# EAGLE library part 14POS-*MM-? (library con-wurth-board-header)
Wurth Elektronik WR-BHD Male Box Headers
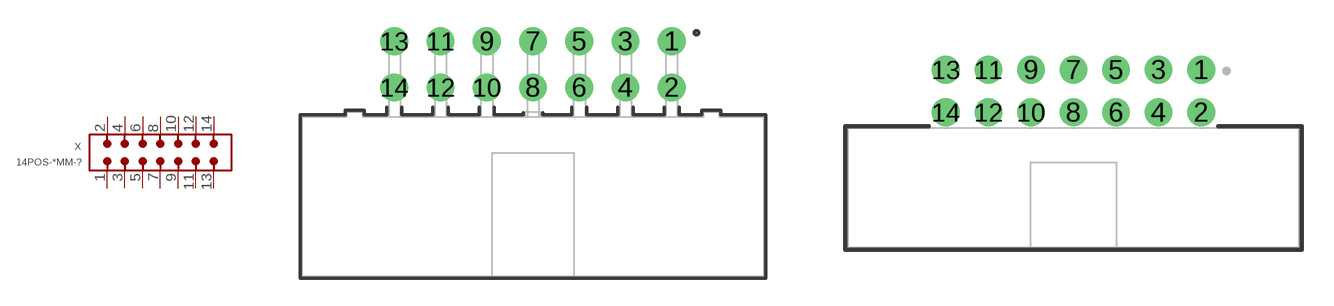
[diagram p4: symbol with the pads of 612014235221; footprints 612014235221, 62501421721]

Designator prefix X

## 14POS-2.54MM-612014235221 (CONTACT-RESISTANCE: 20mOhm; DATASHEET-URL: https://www.we-online.com/redexpert/spec/612014235221?ae; GENDER: Male; IR: 3A; LENGTH: 25.38mm; MOUNT: THT; PACKAGING: Tray; PART-NUMBER: 612014235221; PINS: 14; PITCH: 2.54 mm; TYPE: Angled; VALUE: 612014235221; WORKING-VOLTAGE: 250V(AC))  [612014235221]
1  1  pas
2  2  pas
3  3  pas
4  4  pas
5  5  pas
6  6  pas
7  7  pas
8  8  pas
9  9  pas
10  10  pas
11  11  pas
12  12  pas
13  13  pas
14  14  pas

## 14POS-2.00MM-62501421721 (CONTACT-RESISTANCE: 20mOhm; DATASHEET-URL: https://www.we-online.com/redexpert/spec/62501421721?ae; GENDER: Male; IR: 2A; LENGTH: 21.25mm; MOUNT: THT; PACKAGING: Tray; PART-NUMBER: 62501421721; PINS: 14; PITCH: 2.00 mm; TYPE: Angled; VALUE: 62501421721; WORKING-VOLTAGE: 250V(AC))  [62501421721]
Pads as for 612014235221

## 14POS-2.54MM-61201422021 (CONTACT-RESISTANCE: 20mOhm; DATASHEET-URL: https://www.we-online.com/redexpert/spec/61201422021?ae; GENDER: Male; IR: 3A; LENGTH: 37.28mm; MOUNT: THT; PACKAGING: Tray; PART-NUMBER: 61201422021; PINS: 14; PITCH: 2.54 mm; TYPE: Straight; VALUE: 61201422021; WORKING-VOLTAGE: 250V(AC))  [61201422021]
Pads as for 612014235221

## 14POS-2.54MM-61201421721 (CONTACT-RESISTANCE: 20mOhm; DATASHEET-URL: https://www.we-online.com/redexpert/spec/61201421721?ae; GENDER: Male; IR: 3A; LENGTH: 27.98mm; MOUNT: THT; PACKAGING: Tray; PART-NUMBER: 61201421721; PINS: 14; PITCH: 2.54 mm; TYPE: Angled; VALUE: 61201421721; WORKING-VOLTAGE: 250V(AC))  [61201421721]
Pads as for 612014235221

## 14POS-2.54MM-61201422921 (CONTACT-RESISTANCE: 20mOhm; DATASHEET-URL: https://www.we-online.com/redexpert/spec/61201422921?ae; GENDER: Male; IR: 3A; LENGTH: 37.28mm; MOUNT: THT; PACKAGING: Tray; PART-NUMBER: 61201422921; PINS: 14; PITCH: 2.54 mm; TYPE: Angled; VALUE: 61201422921; WORKING-VOLTAGE: 250V(AC))  [61201422921]
Pads as for 612014235221

## 14POS-1.27MM-62701420621 (CONTACT-RESISTANCE: 20mOhm; DATASHEET-URL: https://www.we-online.com/redexpert/spec/62701420621?ae; GENDER: Male; IR: 1A; LENGTH: 15.24mm; MOUNT: SMT; PART-NUMBER: 62701420621; PINS: 14; PITCH: 1.27mm; TYPE: Straight; VALUE: 62701420621; WORKING-VOLTAGE: 50V(AC))  [62701420621]
Pads as for 612014235221

## 14POS-2.54MM-61201422121 (CONTACT-RESISTANCE: 20mOhm; DATASHEET-URL: https://www.we-online.com/redexpert/spec/61201422121?ae; GENDER: Male; IR: 3A; LENGTH: 37.28mm; MOUNT: THT; PACKAGING: Tray; PART-NUMBER: 61201422121; PINS: 14; PITCH: 2.54 mm; TYPE: Angled; VALUE: 61201422121; WORKING-VOLTAGE: 250V(AC))  [61201422121]
Pads as for 612014235221

## 14POS-2.54MM-61201422821 (CONTACT-RESISTANCE: 20mOhm; DATASHEET-URL: https://www.we-online.com/redexpert/spec/61201422821?ae; GENDER: Male; IR: 3A; LENGTH: 37.28mm; MOUNT: THT; PACKAGING: Tray; PART-NUMBER: 61201422821; PINS: 14; PITCH: 2.54 mm; TYPE: Straight; VALUE: 61201422821; WORKING-VOLTAGE: 250V(AC))  [61201422821]
Pads as for 612014235221

## 14POS-1.27MM-62701421721 (CONTACT-RESISTANCE: 20mOhm; DATASHEET-URL: https://www.we-online.com/redexpert/spec/62701421721?ae; GENDER: Male; IR: 1A; LENGTH: 15.24mm; MOUNT: THT; PART-NUMBER: 62701421721; PINS: 14; PITCH: 1.27mm; TYPE: Angled; VALUE: 62701421721; WORKING-VOLTAGE: 50V(AC))  [62701421721]
Pads as for 612014235221

## 14POS-2.00MM-62501421621 (CONTACT-RESISTANCE: 20mOhm; DATASHEET-URL: https://www.we-online.com/redexpert/spec/62501421621?ae; GENDER: Male; IR: 2A; LENGTH: 21.2mm; MOUNT: THT; PACKAGING: Tray; PART-NUMBER: 62501421621; PINS: 14; PITCH: 2.00 mm; TYPE: Straight; VALUE: 62501421621; WORKING-VOLTAGE: 250V(AC))  [62501421621]
Pads as for 612014235221

## 14POS-1.27MM-62701421621 (CONTACT-RESISTANCE: 20mOhm; DATASHEET-URL: https://www.we-online.com/redexpert/spec/62701421621?ae; GENDER: Male; IR: 1A; LENGTH: 15.24mm; MOUNT: THT; PART-NUMBER: 62701421621; PINS: 14; PITCH: 1.27mm; TYPE: Straight; VALUE: 62701421621; WORKING-VOLTAGE: 50V(AC))  [62701421621]
Pads as for 612014235221

## 14POS-2.00MM-62501422323 (CONTACT-RESISTANCE: 20mOhm; DATASHEET-URL: https://www.we-online.com/redexpert/spec/62501422323?ae; GENDER: Transition; IR: 1A; LENGTH: 18.1mm; MOUNT: THT; PACKAGING: Tray; PART-NUMBER: 62501422323; PINS: 14; PITCH: 2.00 mm; TYPE: Straight; VALUE: 62501422323; WORKING-VOLTAGE: 250V(AC))  [62501422323]
Pads as for 612014235221

## 14POS-2.54MM-61201420621 (CONTACT-RESISTANCE: 20mOhm; DATASHEET-URL: https://www.we-online.com/redexpert/spec/61201420621?ae; GENDER: Male; IR: 3A; LENGTH: 25.58mm; MOUNT: SMT; PACKAGING: Tube; PART-NUMBER: 61201420621; PINS: 14; PITCH: 2.54 mm; TYPE: Straight; VALUE: 61201420621; WORKING-VOLTAGE: 250V(AC))  [61201420621]
Pads as for 612014235221

## 14POS-2.00MM-62501422021 (CONTACT-RESISTANCE: 20mOhm; DATASHEET-URL: https://www.we-online.com/redexpert/spec/62501422021?ae; GENDER: Male; IR: 2A; LENGTH: 29.7mm; MOUNT: THT; PACKAGING: Tray; PART-NUMBER: 62501422021; PINS: 14; PITCH: 2.00 mm; TYPE: Straight; VALUE: 62501422021; WORKING-VOLTAGE: 250V(AC))  [62501422021]
Pads as for 612014235221

## 14POS-2.00MM-62501422121 (CONTACT-RESISTANCE: 20mOhm; DATASHEET-URL: https://www.we-online.com/redexpert/spec/62501422121?ae; GENDER: Male; IR: 2A; LENGTH: 29.7mm; MOUNT: THT; PACKAGING: Tray; PART-NUMBER: 62501422121; PINS: 14; PITCH: 2.00 mm; TYPE: Angled; VALUE: 62501422121; WORKING-VOLTAGE: 250V(AC))  [62501422121]
Pads as for 612014235221

## 14POS-2.54MM-61201422323 (CONTACT-RESISTANCE: 20mOhm; DATASHEET-URL: https://www.we-online.com/redexpert/spec/61201422323?ae; GENDER: Transition; IR: 1A; LENGTH: 23.23mm; MOUNT: THT; PACKAGING: Tray; PART-NUMBER: 61201422323; PINS: 14; PITCH: 2.54 mm; TYPE: Straight; VALUE: 61201422323; WORKING-VOLTAGE: 250V(AC))  [61201422323]
Pads as for 612014235221

## 14POS-2.54MM-612014235121 (CONTACT-RESISTANCE: 20mOhm; DATASHEET-URL: https://www.we-online.com/redexpert/spec/612014235121?ae; GENDER: Male; IR: 3A; LENGTH: 25.38mm; MOUNT: THT; PACKAGING: Tray; PART-NUMBER: 612014235121; PINS: 14; PITCH: 2.54 mm; TYPE: Straight; VALUE: 612014235121; WORKING-VOLTAGE: 250V(AC))  [612014235121]
Pads as for 612014235221

## 14POS-2.54MM-61201421621 (CONTACT-RESISTANCE: 20mOhm; DATASHEET-URL: https://www.we-online.com/redexpert/spec/61201421621?ae; GENDER: Male; IR: 3A; LENGTH: 25.44mm; MOUNT: THT; PACKAGING: Tray; PART-NUMBER: 61201421621; PINS: 14; PITCH: 2.54 mm; TYPE: Straight; VALUE: 61201421621; WORKING-VOLTAGE: 250V(AC))  [61201421621]
Pads as for 612014235221

## 14POS-2.00MM-62531420621 (CONTACT-RESISTANCE: 20mOhm; DATASHEET-URL: https://www.we-online.com/redexpert/spec/62531420621?ae; GENDER: Male; IR: 2A; LENGTH: 21.25mm; MOUNT: SMT; PACKAGING: Tape and Reel with Cap; PART-NUMBER: 62531420621; PINS: 14; PITCH: 2.00; TYPE: Straight; VALUE: 62531420621; WORKING-VOLTAGE: 250V(AC))  [62531420621]
Pads as for 612014235221

## 14POS-2.54MM-61231420621 (CONTACT-RESISTANCE: 20mOhm; DATASHEET-URL: https://www.we-online.com/redexpert/spec/61231420621?ae; GENDER: Male; IR: 3A; LENGTH: 25.4mm; MOUNT: SMT; PACKAGING: Tape and Reel with Cap; PART-NUMBER: 61231420621; PINS: 14; PITCH: 2.54 mm; TYPE: Straight; VALUE: 61231420621; WORKING-VOLTAGE: 250V(AC))  [61231420621]
Pads as for 612014235221

## 14POS-1.27MM-62731420621 (CONTACT-RESISTANCE: 20mOhm; DATASHEET-URL: https://www.we-online.com/redexpert/spec/62731420621?ae; GENDER: Male; IR: 1A; LENGTH: 15.24mm; MOUNT: SMT; PART-NUMBER: 62731420621; PINS: 14; PITCH: 1.27 mm; TYPE: Straight; VALUE: 62731420621; WORKING-VOLTAGE: 50V(AC))  [62731420621]
Pads as for 612014235221

## Footprint 612014235221 (pad centres in mm)
WR-BHD 2.54 mm Male Angled Box Header High Temperature,14 Pins
drill 1.02: 1 7.62,8.54; 2 7.62,6; 3 5.08,8.54; 4 5.08,6; 5 2.54,8.54; 6 2.54,6; 7 0,8.54; 8 0,6; 9 -2.54,8.54; 10 -2.54,6; 11 -5.08,8.54; 12 -5.08,6; 13 -7.62,8.54; 14 -7.62,6

## Footprint 62501421721 (pad centres in mm)
WR-BHD 2.00 mm Male Angled Box Header,14 pins
drill 0.8: 1 6,5.55; 2 6,3.55; 3 4,5.55; 4 4,3.55; 5 2,5.55; 6 2,3.55; 7 0,5.55; 8 0,3.55; 9 -2,5.55; 10 -2,3.55; 11 -4,5.55; 12 -4,3.55; 13 -6,5.55; 14 -6,3.55

## Footprint 61201422021 (pad centres in mm)
WR-BHD 2.54 mm Male Box Header with short lever,14 Pins
drill 1.02: 1 -7.62,-1.27; 2 -7.62,1.27; 3 -5.08,-1.27; 4 -5.08,1.27; 5 -2.54,-1.27; 6 -2.54,1.27; 7 0,-1.27; 8 0,1.27; 9 2.54,-1.27; 10 2.54,1.27; 11 5.08,-1.27; 12 5.08,1.27; 13 7.62,-1.27; 14 7.62,1.27

## Footprint 61201421721 (pad centres in mm)
WR-BHD 2.54 mm Male Angled Box Header,14 Pins
drill 1.1: 1 7.62,8.805; 2 7.62,6.265; 3 5.08,8.805; 4 5.08,6.265; 5 2.54,8.805; 6 2.54,6.265; 7 0,8.805; 8 0,6.265; 9 -2.54,8.805; 10 -2.54,6.265; 11 -5.08,8.805; 12 -5.08,6.265; 13 -7.62,8.805; 14 -7.62,6.265

## Footprint 61201422921 (pad centres in mm)
WR-BHD 2.54 mm Male Angled Box Header with long lever, 14 Pins
drill 1.02: 1 7.62,7.36; 2 7.62,4.82; 3 5.08,7.36; 4 5.08,4.82; 5 2.54,7.36; 6 2.54,4.82; 7 0,7.36; 8 0,4.82; 9 -2.54,7.36; 10 -2.54,4.82; 11 -5.08,7.36; 12 -5.08,4.82; 13 -7.62,7.36; 14 -7.62,4.82

## Footprint 62701420621 (pad centres in mm)
WR-BHD 1.27 mm Male SMT Box Header Pitch: 1.27mm, 14pins, SMT
smd 0.65 x 2.76: 1 -3.81,-2.02; 2 -3.81,2.02; 3 -2.54,-2.02; 4 -2.54,2.02; 5 -1.27,-2.02; 6 -1.27,2.02; 7 0,-2.02; 8 0,2.02; 9 1.27,-2.02; 10 1.27,2.02; 11 2.54,-2.02; 12 2.54,2.02; 13 3.81,-2.02; 14 3.81,2.02

## Footprint 61201422121 (pad centres in mm)
WR-BHD 2.54 mm Male Angled Box Header with short lever,14 Pins
drill 1.02: 1 7.62,7.36; 2 7.62,4.82; 3 5.08,7.36; 4 5.08,4.82; 5 2.54,7.36; 6 2.54,4.82; 7 0,7.36; 8 0,4.82; 9 -2.54,7.36; 10 -2.54,4.82; 11 -5.08,7.36; 12 -5.08,4.82; 13 -7.62,7.36; 14 -7.62,4.82

## Footprint 61201422821 (pad centres in mm)
WR-BHD 2.54 mm Male Box Header with long lever, 14 Pins
drill 1.02: 1 -7.62,-1.27; 2 -7.62,1.27; 3 -5.08,-1.27; 4 -5.08,1.27; 5 -2.54,-1.27; 6 -2.54,1.27; 7 0,-1.27; 8 0,1.27; 9 2.54,-1.27; 10 2.54,1.27; 11 5.08,-1.27; 12 5.08,1.27; 13 7.62,-1.27; 14 7.62,1.27

## Footprint 62701421721 (pad centres in mm)
WR-BHD 1,27mm Male THT Box Header Right angle, 14Pins
drill 0.7 pad 1.05: 1 3.81,4.72; 2 3.81,3.45; 3 2.54,4.72; 4 2.54,3.45; 5 1.27,4.72; 6 1.27,3.45; 7 0,4.72; 8 0,3.45; 9 -1.27,4.72; 10 -1.27,3.45; 11 -2.54,4.72; 12 -2.54,3.45; 13 -3.81,4.72; 14 -3.81,3.45

## Footprint 62501421621 (pad centres in mm)
WR-BHD 2.00 mm Male Box Headerr, 14 pins
drill 0.8: 1 -6,-1; 2 -6,1; 3 -4,-1; 4 -4,1; 5 -2,-1; 6 -2,1; 7 0,-1; 8 0,1; 9 2,-1; 10 2,1; 11 4,-1; 12 4,1; 13 6,-1; 14 6,1

## Footprint 62701421621 (pad centres in mm)
WR-BHD 1.27mm Male THT Box Header Straight, 14Pins
drill 0.7 pad 1.05: 1 -3.81,-0.635; 2 -3.81,0.635; 3 -2.54,-0.635; 4 -2.54,0.635; 5 -1.27,-0.635; 6 -1.27,0.635; 7 0,-0.635; 8 0,0.635; 9 1.27,-0.635; 10 1.27,0.635; 11 2.54,-0.635; 12 2.54,0.635; 13 3.81,-0.635; 14 3.81,0.635

## Footprint 62501422323 (pad centres in mm)
WR-BHD 2.00 mm Board to Cable Transition Connector, 14 pins
drill 1: 1 -6,-1; 2 -6,1; 3 -4,-1; 4 -4,1; 5 -2,-1; 6 -2,1; 7 0,-1; 8 0,1; 9 2,-1; 10 2,1; 11 4,-1; 12 4,1; 13 6,-1; 14 6,1

## Footprint 61201420621 (pad centres in mm)
WR-BHD 2.54 mm Male SMT Box Header,14 pins
smd 1 x 3.75: 1 -7.62,-3.375; 2 -7.62,3.375; 3 -5.08,-3.375; 4 -5.08,3.375; 5 -2.54,-3.375; 6 -2.54,3.375; 7 0,-3.375; 8 0,3.375; 9 2.54,-3.375; 10 2.54,3.375; 11 5.08,-3.375; 12 5.08,3.375; 13 7.62,-3.375; 14 7.62,3.375

## Footprint 62501422021 (pad centres in mm)
WR-BHD 2.00 mm Male Box Header with Lever,14 Pins
drill 0.8: 1 -6,-1; 2 -6,1; 3 -4,-1; 4 -4,1; 5 -2,-1; 6 -2,1; 7 0,-1; 8 0,1; 9 2,-1; 10 2,1; 11 4,-1; 12 4,1; 13 6,-1; 14 6,1

## Footprint 62501422121 (pad centres in mm)
WR-BHD 2.00 mm Male Angled Box Header w. Lever, 14 pins
drill 0.8: 1 6,3.4; 2 6,1.4; 3 4,3.4; 4 4,1.4; 5 2,3.4; 6 2,1.4; 7 0,3.4; 8 0,1.4; 9 -2,3.4; 10 -2,1.4; 11 -4,3.4; 12 -4,1.4; 13 -6,3.4; 14 -6,1.4

## Footprint 61201422323 (pad centres in mm)
WR-BHD 2.54mm Board to Cable Transition Connector, 14 Pins
drill 1.02: 1 -7.62,-1.27; 2 -7.62,1.27; 3 -5.08,-1.27; 4 -5.08,1.27; 5 -2.54,-1.27; 6 -2.54,1.27; 7 0,-1.27; 8 0,1.27; 9 2.54,-1.27; 10 2.54,1.27; 11 5.08,-1.27; 12 5.08,1.27; 13 7.62,-1.27; 14 7.62,1.27

## Footprint 612014235121 (pad centres in mm)
WR-BHD 2.54 mm Male Box Header High Temperature,14 Pins
drill 1.02: 1 -7.62,-1.27; 2 -7.62,1.27; 3 -5.08,-1.27; 4 -5.08,1.27; 5 -2.54,-1.27; 6 -2.54,1.27; 7 0,-1.27; 8 0,1.27; 9 2.54,-1.27; 10 2.54,1.27; 11 5.08,-1.27; 12 5.08,1.27; 13 7.62,-1.27; 14 7.62,1.27

## Footprint 61201421621 (pad centres in mm)
WR-BHD 2.54 mm Male Box Header, 14 Pins
drill 1.1: 1 -7.62,-1.27; 2 -7.62,1.27; 3 -5.08,-1.27; 4 -5.08,1.27; 5 -2.54,-1.27; 6 -2.54,1.27; 7 0,-1.27; 8 0,1.27; 9 2.54,-1.27; 10 2.54,1.27; 11 5.08,-1.27; 12 5.08,1.27; 13 7.62,-1.27; 14 7.62,1.27

## Footprint 62531420621 (pad centres in mm)
WR-BHD 2.00 mm Male SMT Box Header,14 pins
smd 1 x 2.85: 1 -6,-2.425; 2 -6,2.425; 3 -4,-2.425; 4 -4,2.425; 5 -2,-2.425; 6 -2,2.425; 7 0,-2.425; 8 0,2.425; 9 2,-2.425; 10 2,2.425; 11 4,-2.425; 12 4,2.425; 13 6,-2.425; 14 6,2.425

## Footprint 61231420621 (pad centres in mm)
WR-BHD 2.54 mm Male SMT Box Header 2.54 mm, SMT, 14Pins
smd 1.2 x 4.75: 1 -7.62,-2.875; 2 -7.62,2.875; 3 -5.08,-2.875; 4 -5.08,2.875; 5 -2.54,-2.875; 6 -2.54,2.875; 7 0,-2.875; 8 0,2.875; 9 2.54,-2.875; 10 2.54,2.875; 11 5.08,-2.875; 12 5.08,2.875; 13 7.62,-2.875; 14 7.62,2.875

## Footprint 62731420621 (pad centres in mm)
WR-BHD 1.27 mm Male SMT Box Header Pitch: 1.27mm, 14pins, SMT
smd 0.65 x 2.76: 1 -3.81,-2.02; 2 -3.81,2.02; 3 -2.54,-2.02; 4 -2.54,2.02; 5 -1.27,-2.02; 6 -1.27,2.02; 7 0,-2.02; 8 0,2.02; 9 1.27,-2.02; 10 1.27,2.02; 11 2.54,-2.02; 12 2.54,2.02; 13 3.81,-2.02; 14 3.81,2.02